# Altium footprint library mechanical_other.PcbLib: 10 footprints
Each footprint in its own frame and in the unit in brackets; x right, y up, seen from the top. Pads: shape width x height; smd on the part's side, far side on the other; paste and mask are expansions set on the pad; w line width, h text height; cw(c..) or ccw(c..) is an arc to the next point about the centre after c.
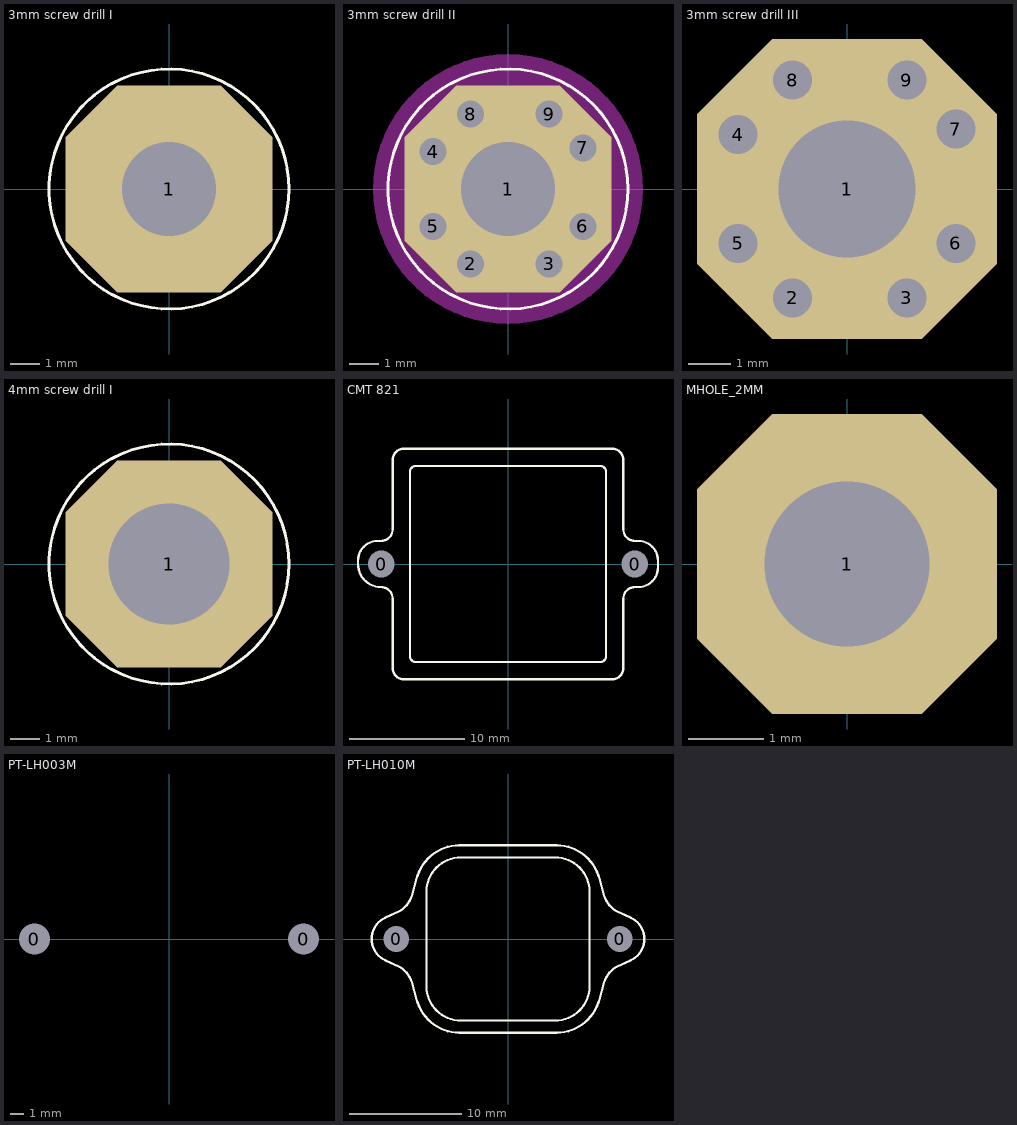
[diagram p0: the footprints below, top view; thin cyan lines are the x and y axes]

## 3mm screw drill I [mm]
pads (1):
  oct 7x7 hole 3.2: 1(0,0)
Top Overlay:
  circle w0.102: c0,0 r4.064
Bottom Overlay:
  circle w0.254: c0,0 r5.08
3D body "M3x4.step": height 2, standoff -4, extent -2.75,-2.75 2.75,2.75

## 3mm screw drill II [mil]
pads (9):
  oct 275.59x275.59 hole 125.98: 1(0,0)
  round 62 hole 36: 2(-50,-100) 3(55,-100) 4(-100,50) 5(-100,-50) 6(100,-50) 7(100,55) 8(-50,100) 9(55,100)
Top Overlay:
  circle w4: c0,0 r160
Bottom Overlay:
  circle w10: c0,0 r200
Keep-Out Layer:
  circle w10: c0,0 r174.93
  circle w15: c0,0 r163.25
  circle w15: c0,0 r141.16
  circle w15: c0,0 r152.31
3D body "M3x4.step": height 78.74, standoff -157.48, extent -108.26,-108.26 108.27,108.27

## 3mm screw drill III [mil]
pads (9):
  oct 275.59x275.59 hole 125.98: 1(0,0)
  round 62 hole 36: 2(-50,-100) 3(55,-100) 4(-100,50) 5(-100,-50) 6(100,-50) 7(100,55) 8(-50,100) 9(55,100)
3D body "M3x4.step": height 78.74, standoff -157.48, extent -108.26,-108.26 108.27,108.27

## 4mm screw drill I [mm]
pads (1):
  oct 7x7 hole 4.1: 1(0,0)
Top Overlay:
  circle w0.102: c0,0 r4.064
Bottom Overlay:
  circle w0.254: c0,0 r5.08
3D body "M3x4.step": height 2, standoff -4, extent -2.75,-2.75 2.75,2.75

## CMT 821 [mm] "CMT821 Lens Mount"
height 11.2
pads (2):
  round 2 hole 2.3: 0(-11,0) 0(11,0)
Top Overlay:
  lines w0.2: -13,0 ccw(c-11,0) -11,-2 cw(c-11,-3) -10,-3 -10,-9 ccw(c-9,-9) -9,-10 9,-10 ccw(c9,-9) 10,-9 10,-3 cw(c11,-3) 11,-2 11.293,-2 ccw(c11.293,-0.293) 13,-0.293 13,0.293 ccw(c11.293,0.293) 11.293,2 11,2 cw(c11,3) 10,3 10,9 ccw(c9,9) 9,10 -9,10 ccw(c-9,9) -10,9 -10,3 cw(c-11,3) -11,2 -11.293,2 ccw(c-11.293,0.293) -13,0.293 -13,0 ; -8.5,-8 ccw(c-8,-8) -8,-8.5 8,-8.5 ccw(c8,-8) 8.5,-8 8.5,8 ccw(c8,8) 8,8.5 -8,8.5 ccw(c-8,8) -8.5,8 -8.5,-8
3D body: height 5.2, standoff 0, extent -13,-10 13,10

## HEX_SPACER_M/F_8 [mil] "Metal hexagonal spacer M/F, 8mm"
height 314.96
3D body "User Library-3x8 m-f.step": height 0, standoff -551.18, extent -98.42,-113.64 98.43,113.66

## HEX_SPACER_M/F_10 [mil] "Metal hexagonal spacer M/F, 10mm"
height 393.7
3D body "User Library-3x10 m-f.step": height 669.29, standoff 0, extent -105.52,-112.48 105.53,112.5

## MHOLE_2MM [mm]
pads (1):
  oct 4x4 hole 2.2: 1(0,0)

## PT-LH003M [mm] "M12x0,5 Lens Holder (M12 Lenses)"
height 16.45
pads (2):
  round 2 hole 2.3: 0(-10,0) 0(10,0)
3D body "PT-LH003M.stp": height 16.6, standoff 0, extent -12.15,-8.45 12.15,8.45

## PT-LH010M [mm] "M12x0,5 Lens Holder (M12 Lenses)"
height 15
pads (2):
  round 2 hole 2.3: 0(-10,0) 0(10,0)
Top Overlay:
  lines w0.2: -4.36,-8.4 cw(c-4.292,-4.377) -8.074,-5.747 -8.2,-5.4 -8.6,-3.9 ccw(c-10.96,-4.622) -9.7,-2.5 -11,-1.9 cw(c-10.143,-0.03) -12.2,0 cw(c-10.143,0.03) -11,1.9 -9.7,2.5 ccw(c-10.96,4.622) -8.6,3.9 -8.2,5.4 -8.074,5.747 cw(c-4.292,4.377) -4.36,8.4 ; -4.292,-8.4 0,-8.4 4.292,-8.4 ; -4.292,8.4 0,8.4 4.292,8.4 ; 4.36,-8.4 ccw(c4.292,-4.377) 8.074,-5.747 8.2,-5.4 8.6,-3.9 cw(c10.96,-4.622) 9.7,-2.5 11,-1.9 ccw(c10.143,-0.03) 12.2,0 ccw(c10.143,0.03) 11,1.9 9.7,2.5 cw(c10.96,4.622) 8.6,3.9 8.2,5.4 8.074,5.747 ccw(c4.292,4.377) 4.36,8.4 ; -7.3,-4.227 ccw(c-4.227,-4.227) -4.227,-7.3 0,-7.3 4.227,-7.3 ccw(c4.227,-4.227) 7.3,-4.227 7.3,0 7.3,4.227 ccw(c4.227,4.227) 4.227,7.3 0,7.3 -4.227,7.3 ccw(c-4.227,4.227) -7.3,4.227 -7.3,0 -7.3,-4.227
3D body "PT-LH010M.stp": height 15, standoff 0, extent -12.15,-8.35 12.15,8.35